# EAGLE library part D151803-CONN (library toyotune)
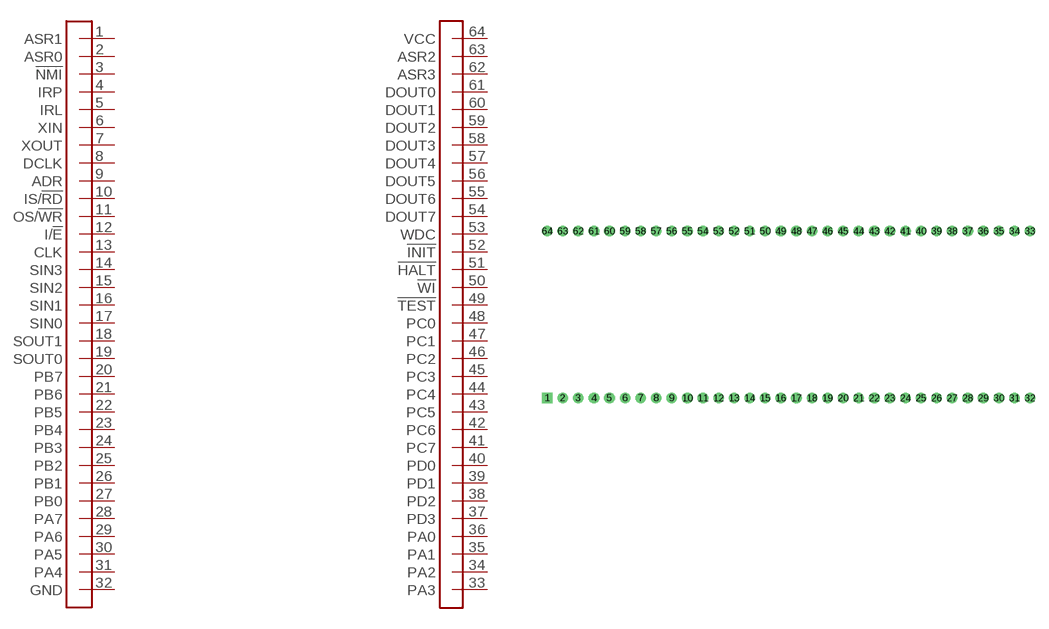
[diagram p1: symbol with the pads of SDIP-64-CONN; footprint SDIP-64-CONN]

Designator prefix U

## D151803-CONN  [SDIP-64-CONN]
1  ASR1
2  ASR0
3  !NMI
4  IRP
5  IRL
6  XIN
7  XOUT
8  DCLK
9  ADR
10  IS/!RD
11  OS/!WR
12  I/!E
13  CLK
14  SIN3
15  SIN2
16  SIN1
17  SIN0
18  SOUT1
19  SOUT0
20  PB7
21  PB6
22  PB5
23  PB4
24  PB3
25  PB2
26  PB1
27  PB0
28  PA7
29  PA6
30  PA5
31  PA4
32  GND
33  PA3
34  PA2
35  PA1
36  PA0
37  PD3
38  PD2
39  PD1
40  PD0
41  PC7
42  PC6
43  PC5
44  PC4
45  PC3
46  PC2
47  PC1
48  PC0
49  !TEST
50  !WI
51  !HALT
52  !INIT
53  WDC
54  DOUT7
55  DOUT6
56  DOUT5
57  DOUT4
58  DOUT3
59  DOUT2
60  DOUT1
61  DOUT0
62  ASR3
63  ASR2
64  VCC

## Footprint SDIP-64-CONN (pad centres in mm)
drill 0.711 square: 1 -27.559,-9.525
drill 0.711: 2 -25.781,-9.525; 3 -24.003,-9.525; 4 -22.225,-9.525; 5 -20.447,-9.525; 6 -18.669,-9.525; 7 -16.891,-9.525; 8 -15.113,-9.525; 9 -13.335,-9.525; 10 -11.557,-9.525; 11 -9.779,-9.525; 12 -8.001,-9.525; 13 -6.223,-9.525; 14 -4.445,-9.525; 15 -2.667,-9.525; 16 -0.889,-9.525; 17 0.889,-9.525; 18 2.667,-9.525; 19 4.445,-9.525; 20 6.223,-9.525; 21 8.001,-9.525; 22 9.779,-9.525; 23 11.557,-9.525; 24 13.335,-9.525; 25 15.113,-9.525; 26 16.891,-9.525; 27 18.669,-9.525; 28 20.447,-9.525; 29 22.225,-9.525; 30 24.003,-9.525; 31 25.781,-9.525; 32 27.559,-9.525; 33 27.559,9.525; 34 25.781,9.525; 35 24.003,9.525; 36 22.225,9.525; 37 20.447,9.525; 38 18.669,9.525; 39 16.891,9.525; 40 15.113,9.525; 41 13.335,9.525; 42 11.557,9.525; 43 9.779,9.525; 44 8.001,9.525; 45 6.223,9.525; 46 4.445,9.525; 47 2.667,9.525; 48 0.889,9.525; 49 -0.889,9.525; 50 -2.667,9.525; 51 -4.445,9.525; 52 -6.223,9.525; 53 -8.001,9.525; 54 -9.779,9.525; 55 -11.557,9.525; 56 -13.335,9.525; 57 -15.113,9.525; 58 -16.891,9.525; 59 -18.669,9.525; 60 -20.447,9.525; 61 -22.225,9.525; 62 -24.003,9.525; 63 -25.781,9.525; 64 -27.559,9.525